# EAGLE library part MIC4127YME (library MIC4127YME)
1.5A 2xHigh Spd MOSFET Driver,MIC4127YME Micrel MIC4127YME, Dual MOSFET Power Driver 1.5A, 4.5 20 V, Non-Inverting, 8-Pin SOIC Source: Datasheet <http://ww1.microchip.com/downloads/en/DeviceDoc/MIC4126-27-28-Data-Sheet-20006084A.pdf>
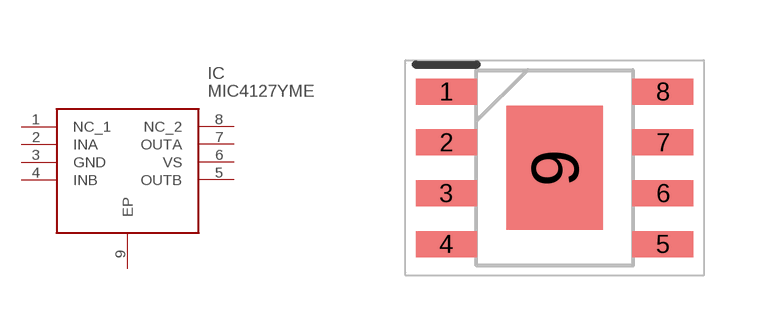
[diagram p0: symbol with the pads of SOIC127P602X168-9N; footprint SOIC127P602X168-9N]

Designator prefix IC

## MIC4127YME (Arrow_Part_Number: MIC4127YME; Arrow_Price-Stock: https://www.arrow.com/en/products/mic4127yme/microchip-technology; Description: 1.5A 2xHigh Spd MOSFET Driver,MIC4127YME Micrel MIC4127YME, Dual MOSFET Power Driver 1.5A, 4.5 20 V, Non-Inverting, 8-Pin SOIC; Height: 1.68mm; Manufacturer_Name: Microchip; Manufacturer_Part_Number: MIC4127YME; Mouser_Part_Number: 998-MIC4127YME; Mouser_Price-Stock: https://www.mouser.com/Search/Refine.aspx?Keyword=998-MIC4127YME)  [SOIC127P602X168-9N]
1  NC_1
2  INA
3  GND
4  INB
5  OUTB
6  VS
7  OUTA
8  NC_2
9  EP

## Footprint SOIC127P602X168-9N (pad centres in mm)
3.90 mm (1.50 In) Body [SOIC]
smd 1.525 x 0.65: 1 -2.712,1.905; 2 -2.712,0.635; 3 -2.712,-0.635; 4 -2.712,-1.905; 5 2.712,-1.905; 6 2.712,-0.635; 7 2.712,0.635; 8 2.712,1.905
smd 2.41 x 3.1: 9 0,0